# Altium schematic symbol library C_TANT_A(3216).SchLib: 1 symbol
Pins are listed as number, name and electrical type; pins without a type are passive.

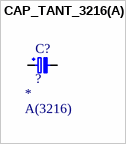
[diagram p0: symbol CAP_TANT_3216(A)]

## CAP_TANT_3216(A)
designator C?, comment ?  Package: A(3216)
CASE-A-3216-18(mm) Tantalum Capacitors ROHS; Manufacturer: *; Manufacturer Part: *; Value: ?; LCSC: *; Voltage: *
footprint C3216(A)
pins: 1, 2